# Altium integrated library Coilcraft.IntLib: 1 symbol
Pins are listed as number, name and electrical type; pins without a type are passive.

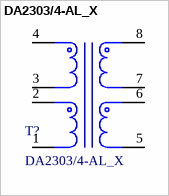
[diagram p0: symbol DA2303/4-AL_X]

## DA2303/4-AL_X
designator T?
SMT Power Transformers
footprint DA2303-AL
pins: 1, 2, 3, 4, 5, 6, 7, 8